# Altium schematic symbol library CAP_470pF_0603.SchLib: 1 symbol
Pins are listed as number, name and electrical type; pins without a type are passive.

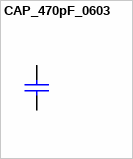
[diagram p0: symbol CAP_470pF_0603]

## CAP_470pF_0603
designator C?, comment 470pF
470 pF ±10% 50V Ceramic Capacitor X7R 0603 (1608 Metric); Supplier 1: Digi-Key; Supplier Part Number 1: 311-1078-1-ND
footprint Cap_0603_M (Yageo KEMET Maximum Density (Level A) Footprint, reference at pate centre. Datasheet: https://www.yageogroup.com/content/datasheet/asset/file/KEM_C1006_X5R_SMD)
footprint Cap_0603_N (Yageo KEMET Nominal Density Footprint using Nominal Land Protusion (Level B), reference at pate centre. Datasheet: https://www.yageogroup.com/content/datasheet/asset/file/KEM_C1006_X5R_SMD)
pins: 1, 2